# EAGLE library part LM391 (library MyoWare_LED_Shield)
Dot/Bar Display Driver Source: Data sheet LM3915 <http://www.national.com/ds/LM/LM3915.pdf> Data sheet LM3914 <http://www.national.com/ds/LM/LM3914.pdf>
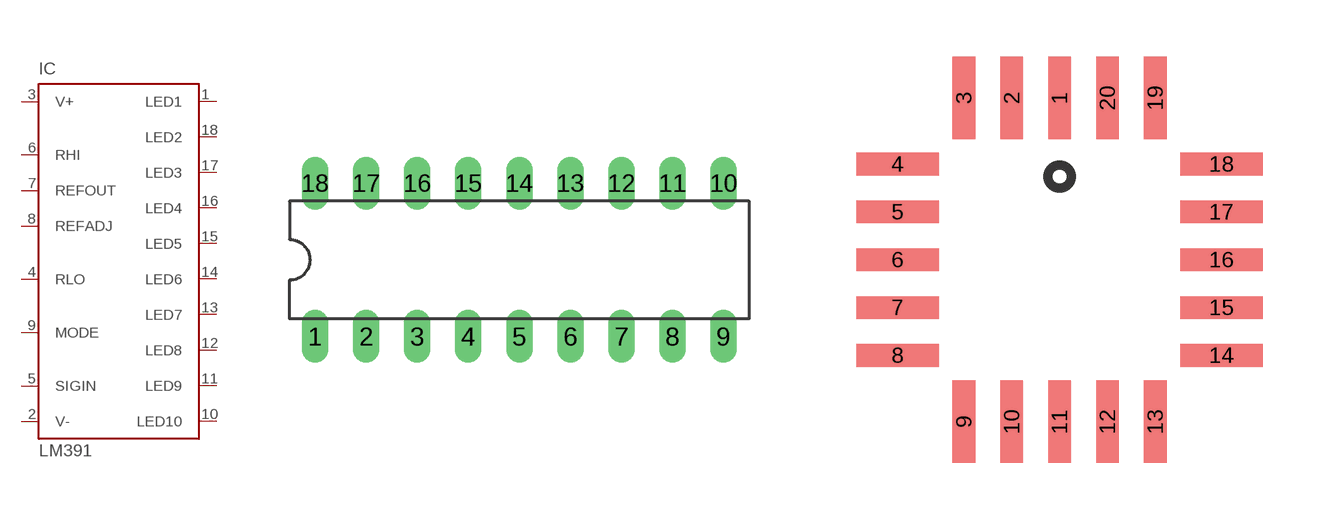
[diagram p1: symbol with the pads of DIL18; footprints DIL18, PLCC20S]

Designator prefix IC

## LM391N, LM3914N, LM3915N  [DIL18]
1  LED1  out
2  V-  pwr
3  V+  pwr
4  RLO  in
5  SIGIN  in
6  RHI  in
7  REFOUT  out
8  REFADJ  pas
9  MODE  in
10  LED10  out
11  LED9  out
12  LED8  out
13  LED7  out
14  LED6  out
15  LED5  out
16  LED4  out
17  LED3  out
18  LED2  out

## LM391V, LM3914V  [PLCC20S]
1  LED1  out
2  V-  pwr
3  V+  pwr
4  RLO  in
5  SIGIN  in
6  RHI  in
8  REFOUT  out
10  REFADJ  pas
11  MODE  in
12  LED10  out
13  LED9  out
14  LED8  out
15  LED7  out
16  LED6  out
17  LED5  out
18  LED4  out
19  LED3  out
20  LED2  out

## Footprint DIL18 (pad centres in mm)
Dual In Line Package
drill 0.813 long: 1 -10.16,-3.81; 2 -7.62,-3.81; 3 -5.08,-3.81; 4 -2.54,-3.81; 5 0,-3.81; 6 2.54,-3.81; 7 5.08,-3.81; 8 7.62,-3.81; 9 10.16,-3.81; 10 10.16,3.81; 11 7.62,3.81; 12 5.08,3.81; 13 2.54,3.81; 14 0,3.81; 15 -2.54,3.81; 16 -5.08,3.81; 17 -7.62,3.81; 18 -10.16,3.81

## Footprint PLCC20S (pad centres in mm)
PLCC 20 lead square
smd 0.6 x 2.2: 1 0,4.3; 2 -1.27,4.3; 3 -2.54,4.3; 9 -2.54,-4.3; 10 -1.27,-4.3; 11 0,-4.3; 12 1.27,-4.3; 13 2.54,-4.3; 19 2.54,4.3; 20 1.27,4.3
smd 2.2 x 0.6: 4 -4.3,2.54; 5 -4.3,1.27; 6 -4.3,0; 7 -4.3,-1.27; 8 -4.3,-2.54; 14 4.3,-2.54; 15 4.3,-1.27; 16 4.3,0; 17 4.3,1.27; 18 4.3,2.54